# Altium schematic symbol library ICs-CameraInterfaces.SchLib: 2 symbols
Pins are listed as number, name and electrical type; pins without a type are passive.

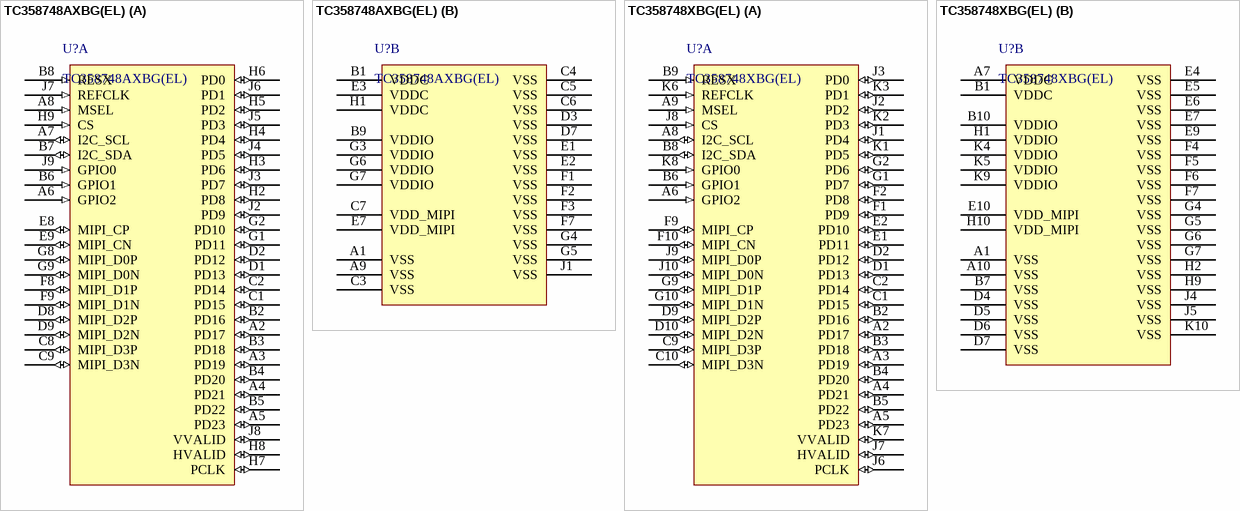
[diagram p0: symbols TC358748AXBG(EL) to TC358748XBG(EL)]

## TC358748AXBG(EL)
designator U?
IC MIPI CSI2 TO PARALLEL 72VFBGA; Manufacturer: Toshiba Semiconductor; PartNumber: TC358748AXBG(EL); Mounting Technology: Surface Mount; PackageReference: BGA-72
footprint BGA-72 (BGA, 72-Leads, Body 4.50x4.50mmx1.00mm, Pitch 0.40mm)
part A pins: A2 PD17 (io), A3 PD19 (io), A4 PD21 (io), A5 PD23 (io), A6 GPIO2 (in), A7 I2C_SCL (io), A8 MSEL (in), B2 PD16 (io), B3 PD18 (io), B4 PD20 (io), B5 PD22 (io), B6 GPIO1 (in), B7 I2C_SDA (io), B8 RESX (in), C1 PD15 (io), C2 PD14 (io), C8 MIPI_D3P (io), C9 MIPI_D3N (io), D1 PD13 (io), D2 PD12 (io), D8 MIPI_D2P (io), D9 MIPI_D2N (io), E8 MIPI_CP (io), E9 MIPI_CN (io), F8 MIPI_D1P (io), F9 MIPI_D1N (io), G1 PD11 (io), G2 PD10 (io), G8 MIPI_D0P (io), G9 MIPI_D0N (io), H2 PD8 (io), H3 PD6 (io), H4 PD4 (io), H5 PD2 (io), H6 PD0 (io), H7 PCLK (io), H8 HVALID (io), H9 CS (in), J2 PD9 (io), J3 PD7 (io), J4 PD5 (io), J5 PD3 (io), J6 PD1 (io), J7 REFCLK (in), J8 VVALID (io), J9 GPIO0 (in)
part B pins: A1 VSS (power), A9 VSS (power), B1 VDDC (power), B9 VDDIO (power), C3 VSS (power), C4 VSS (power), C5 VSS (power), C6 VSS (power), C7 VDD_MIPI (power), D3 VSS (power), D7 VSS (power), E1 VSS (power), E2 VSS (power), E3 VDDC (power), E7 VDD_MIPI (power), F1 VSS (power), F2 VSS (power), F3 VSS (power), F7 VSS (power), G3 VDDIO (power), G4 VSS (power), G5 VSS (power), G6 VDDIO (power), G7 VDDIO (power), H1 VDDC (power), J1 VSS (power)

## TC358748XBG(EL)
designator U?
IC MIPI CSI2 TO PARALLEL 80VFBGA; Manufacturer: Toshiba Semiconductor; PartNumber: TC358748XBG(EL); Mounting Technology: Surface Mount; PackageReference: BGA-80
footprint BGA-80 (BGA, 80-Leads, Body 7.00x7.00mmx1.00mm, Pitch 0.65mm)
part A pins: A2 PD17 (io), A3 PD19 (io), A4 PD21 (io), A5 PD23 (io), A6 GPIO2 (in), A8 I2C_SCL (io), A9 MSEL (in), B2 PD16 (io), B3 PD18 (io), B4 PD20 (io), B5 PD22 (io), B6 GPIO1 (in), B8 I2C_SDA (io), B9 RESX (in), C1 PD15 (io), C2 PD14 (io), C9 MIPI_D3P (io), C10 MIPI_D3N (io), D1 PD13 (io), D2 PD12 (io), D9 MIPI_D2P (io), D10 MIPI_D2N (io), E1 PD11 (io), E2 PD10 (io), F1 PD9 (io), F2 PD8 (io), F9 MIPI_CP (io), F10 MIPI_CN (io), G1 PD7 (io), G2 PD6 (io), G9 MIPI_D1P (io), G10 MIPI_D1N (io), J1 PD4 (io), J2 PD2 (io), J3 PD0 (io), J6 PCLK (io), J7 HVALID (io), J8 CS (in), J9 MIPI_D0P (io), J10 MIPI_D0N (io), K1 PD5 (io), K2 PD3 (io), K3 PD1 (io), K6 REFCLK (in), K7 VVALID (io), K8 GPIO0 (in)
part B pins: A1 VSS (power), A7 VDDC (power), A10 VSS (power), B1 VDDC (power), B7 VSS (power), B10 VDDIO (power), D4 VSS (power), D5 VSS (power), D6 VSS (power), D7 VSS (power), E4 VSS (power), E5 VSS (power), E6 VSS (power), E7 VSS (power), E9 VSS (power), E10 VDD_MIPI (power), F4 VSS (power), F5 VSS (power), F6 VSS (power), F7 VSS (power), G4 VSS (power), G5 VSS (power), G6 VSS (power), G7 VSS (power), H1 VDDIO (power), H2 VSS (power), H9 VSS (power), H10 VDD_MIPI (power), J4 VSS (power), J5 VSS (power), K4 VDDIO (power), K5 VDDIO (power), K9 VDDIO (power), K10 VSS (power)